# Altium footprint library MFR50SFTE52-10K.PcbLib: 1 footprints
Each footprint in its own frame and in the unit in brackets; x right, y up, seen from the top. Pads: shape width x height; smd on the part's side, far side on the other; paste and mask are expansions set on the pad; w line width, h text height; cw(c..) or ccw(c..) is an arc to the next point about the centre after c.
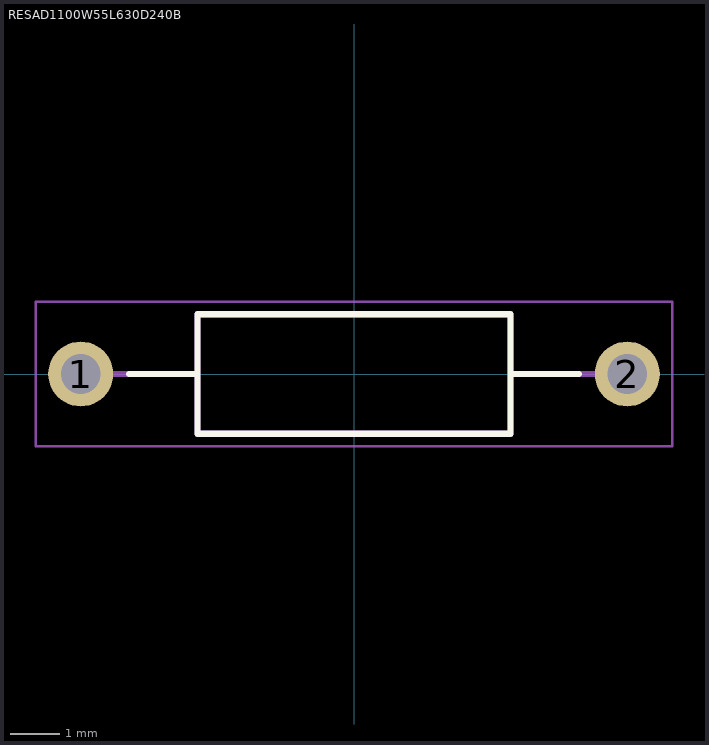
[diagram p0: the footprint, top view; thin cyan lines are the x and y axes]

## RESAD1100W55L630D240B [mm]
pads (2):
  round 1.308 hole 0.8: 1(-5.5,0) 2(5.5,0)
Top Overlay:
  lines w0.127: -4.526,0 -3.15,0 ; 4.526,0 3.15,0 ; -3.15,0 -3.15,-1.2 3.15,-1.2 3.15,0 ; -3.15,0 -3.15,1.2 3.15,1.2 3.15,0
Assembly Top:
  lines w0.127: -5.5,0 -3.15,0 ; 5.5,0 3.15,0 ; -3.15,0 -3.15,-1.2 3.15,-1.2 3.15,0 ; -3.15,0 -3.15,1.2 3.15,1.2 3.15,0
Courtyard Top:
  lines w0.05: -6.404,-1.45 6.404,-1.45 6.404,1.45 -6.404,1.45 -6.404,-1.45
3D body "step_temp.STEP": height 2.4, standoff -26.95, extent -5.775,-1.2 5.775,1.2
3D body "MFR50SFTE5210K.STEP": height 2.39, standoff -26.95, extent -5.775,-1.2 5.775,1.2